# EAGLE library part OMAP3530-CBB (library ti-omap)
OMAP3530-CBB edit this description Auto generated by make-symbol-device-package-bsdl.ulp Rev. 32 Source: OMAP3530-CBB.bsd Connect-List generated from OMAP3530-CBB-REF.DEV Variant '' with split-device-symbol.ulp
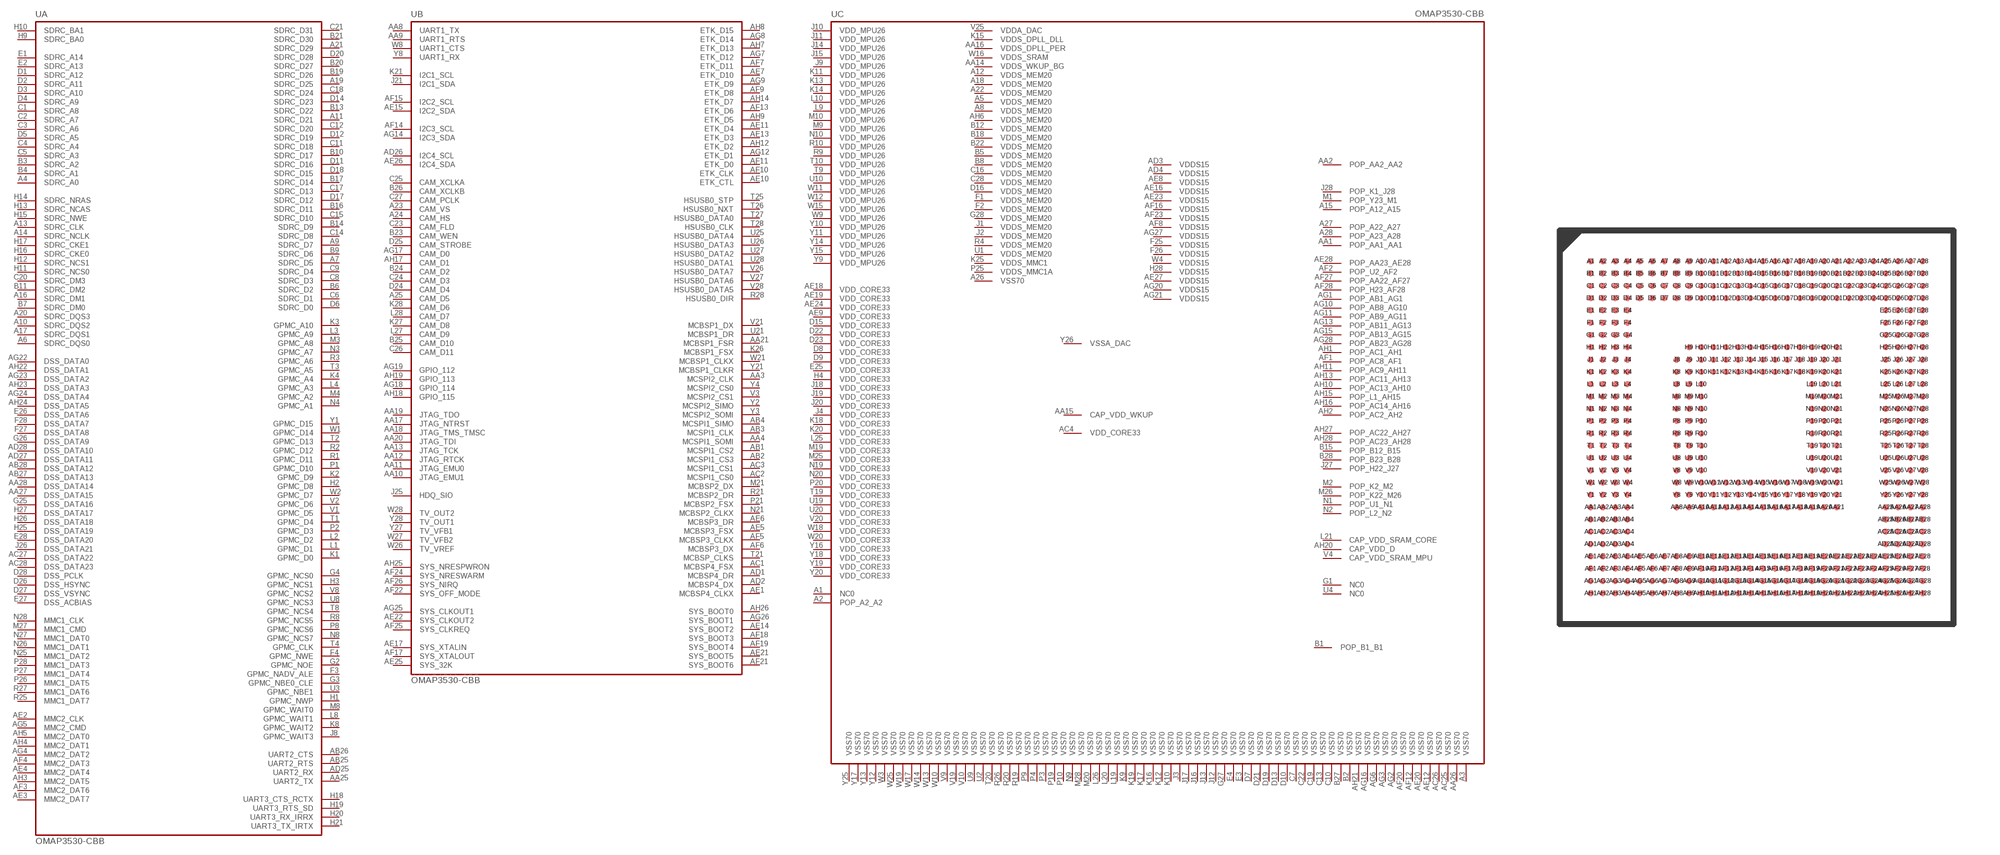
[diagram p0: symbol with the pads of CBB; footprint CBB]

Designator prefix U; gates A=OMAP3530-CBB-A B=OMAP3530-CBB-B C=OMAP3530-CBB-C

## OMAP3530-CBBX  [CBB]
A1  C:NC0  pas
A2  C:POP_A2_A2  pas
A3  C:VSS70  pas
A4  A:SDRC_A0  out
A5  C:VDDS_MEM20  pas
A6  A:SDRC_DQS0  pas
A7  A:SDRC_D5
A8  C:VDDS_MEM20  pas
A9  A:SDRC_D7
A10  A:SDRC_DQS2  pas
A11  A:SDRC_D21
A12  C:VDDS_MEM20  pas
A13  A:SDRC_CLK  pas
A14  A:SDRC_NCLK  pas
A15  C:POP_A12_A15  pas
A16  A:SDRC_DM1  out
A17  A:SDRC_DQS1  pas
A18  C:VDDS_MEM20  pas
A19  A:SDRC_D25
A20  A:SDRC_DQS3  pas
A21  A:SDRC_D29
A22  C:VDDS_MEM20  pas
A23  B:CAM_VS
A24  B:CAM_HS
A25  B:CAM_D5
A26  C:VSS70  pas
A27  C:POP_A22_A27  pas
A28  C:POP_A23_A28  pas
AA1  C:POP_AA1_AA1  pas
AA2  C:POP_AA2_AA2  pas
AA3  B:MCSPI2_CLK
AA4  B:MCSPI1_SOMI
AA8  B:UART1_TX
AA9  B:UART1_RTS
AA10  B:JTAG_EMU1  pas
AA11  B:JTAG_EMU0  pas
AA12  B:JTAG_RTCK  pas
AA13  B:JTAG_TCK  in
AA14  C:VDDS_WKUP_BG  pas
AA15  C:CAP_VDD_WKUP  pas
AA16  C:VDDS_DPLL_PER  pas
AA17  B:JTAG_NTRST  in
AA18  B:JTAG_TMS_TMSC  in
AA19  B:JTAG_TDO  out
AA20  B:JTAG_TDI  in
AA21  B:MCBSP1_FSR
AA25  A:UART2_TX
AA26  C:VSS70  pas
AA27  A:DSS_DATA15
AA28  A:DSS_DATA14
AB1  B:MCSPI1_CS2
AB2  B:MCSPI1_CS3
AB3  B:MCSPI1_CLK
AB4  B:MCSPI1_SIMO
AB25  A:UART2_RTS
AB26  A:UART2_CTS
AB27  A:DSS_DATA13
AB28  A:DSS_DATA12
AC1  B:MCBSP4_FSX
AC2  B:MCSPI1_CS0
AC3  B:MCSPI1_CS1
AC4  C:VDD_CORE33  pas
AC25  C:VSS70  pas
AC26  C:VSS70  pas
AC27  A:DSS_DATA22
AC28  A:DSS_DATA23
AD1  B:MCBSP4_DR
AD2  B:MCBSP4_DX
AD3  C:VDDS15  pas
AD4  C:VDDS15  pas
AD25  A:UART2_RX
AD26  B:I2C4_SCL
AD27  A:DSS_DATA11
AD28  A:DSS_DATA10
AE1  B:MCBSP4_CLKX
AE2  A:MMC2_CLK
AE3  A:MMC2_DAT7
AE4  A:MMC2_DAT4
AE5  B:MCBSP3_FSX
AE6  B:MCBSP3_DR
AE7  B:ETK_D10
AE8  C:VDDS15  pas
AE9  C:VDD_CORE33  pas
AE10  B:ETK_CTL
AE11  B:ETK_D4
AE12  C:VSS70  pas
AE13  B:ETK_D3
AE14  B:SYS_BOOT2
AE15  B:I2C2_SDA
AE16  C:VDDS15  pas
AE17  B:SYS_XTALIN  pas
AE18  C:VDD_CORE33  pas
AE19  C:VDD_CORE33  pas
AE20  C:VSS70  pas
AE21  B:SYS_BOOT5
AE22  B:SYS_CLKOUT2
AE23  C:VDDS15  pas
AE24  C:VDD_CORE33  pas
AE25  B:SYS_32K  pas
AE26  B:I2C4_SDA
AE27  C:VDDS15  pas
AE28  C:POP_AA23_AE28  pas
AF1  C:POP_AC8_AF1  pas
AF2  C:POP_U2_AF2  pas
AF3  A:MMC2_DAT6
AF4  A:MMC2_DAT3
AF5  B:MCBSP3_CLKX
AF6  B:MCBSP3_DX
AF7  B:ETK_D11
AF8  C:VDDS15  pas
AF9  B:ETK_D8
AF10  B:ETK_CLK
AF11  B:ETK_D0
AF12  C:VSS70  pas
AF13  B:ETK_D6
AF14  B:I2C3_SCL
AF15  B:I2C2_SCL
AF16  C:VDDS15  pas
AF17  B:SYS_XTALOUT  pas
AF18  B:SYS_BOOT3
AF19  B:SYS_BOOT4
AF20  C:VSS70  pas
AF21  B:SYS_BOOT6
AF22  B:SYS_OFF_MODE
AF23  C:VDDS15  pas
AF24  B:SYS_NRESWARM  pas
AF25  B:SYS_CLKREQ
AF26  B:SYS_NIRQ
AF27  C:POP_AA22_AF27  pas
AF28  C:POP_H23_AF28  pas
AG1  C:POP_AB1_AG1  pas
AG2  C:VSS70  pas
AG3  C:VSS70  pas
AG4  A:MMC2_DAT2
AG5  A:MMC2_CMD
AG6  C:VSS70  pas
AG7  B:ETK_D12
AG8  B:ETK_D14
AG9  B:ETK_D9
AG10  C:POP_AB8_AG10  pas
AG11  C:POP_AB9_AG11  pas
AG12  B:ETK_D1
AG13  C:POP_AB11_AG13  pas
AG14  B:I2C3_SDA
AG15  C:POP_AB13_AG15  pas
AG16  C:VSS70  pas
AG17  B:CAM_D0  in
AG18  B:GPIO_114  in
AG19  B:GPIO_112  in
AG20  C:VDDS15  pas
AG21  C:VDDS15  pas
AG22  A:DSS_DATA0
AG23  A:DSS_DATA2
AG24  A:DSS_DATA4
AG25  B:SYS_CLKOUT1
AG26  B:SYS_BOOT1
AG27  C:VDDS15  pas
AG28  C:POP_AB23_AG28  pas
AH1  C:POP_AC1_AH1  pas
AH2  C:POP_AC2_AH2  pas
AH3  A:MMC2_DAT5
AH4  A:MMC2_DAT1
AH5  A:MMC2_DAT0
AH6  C:VDDS_MEM20  pas
AH7  B:ETK_D13
AH8  B:ETK_D15
AH9  B:ETK_D5
AH10  C:POP_AC13_AH10  pas
AH11  C:POP_AC9_AH11  pas
AH12  B:ETK_D2
AH13  C:POP_AC11_AH13  pas
AH14  B:ETK_D7
AH15  C:POP_L1_AH15  pas
AH16  C:POP_AC14_AH16  pas
AH17  B:CAM_D1  in
AH18  B:GPIO_115  in
AH19  B:GPIO_113  in
AH20  C:CAP_VDD_D  pas
AH21  C:VSS70  pas
AH22  A:DSS_DATA1
AH23  A:DSS_DATA3
AH24  A:DSS_DATA5
AH25  B:SYS_NRESPWRON  pas
AH26  B:SYS_BOOT0
AH27  C:POP_AC22_AH27  pas
AH28  C:POP_AC23_AH28  pas
B1  C:POP_B1_B1  pas
B2  C:VSS70  pas
B3  A:SDRC_A2  out
B4  A:SDRC_A1  out
B5  C:VDDS_MEM20  pas
B6  A:SDRC_D2
B7  A:SDRC_DM0  out
B8  C:VDDS_MEM20  pas
B9  A:SDRC_D6
B10  A:SDRC_D17
B11  A:SDRC_DM2  out
B12  C:VDDS_MEM20  pas
B13  A:SDRC_D22
B14  A:SDRC_D9
B15  C:POP_B12_B15  pas
B16  A:SDRC_D11
B17  A:SDRC_D14
B18  C:VDDS_MEM20  pas
B19  A:SDRC_D26
B20  A:SDRC_D27
B21  A:SDRC_D30
B22  C:VDDS_MEM20  pas
B23  B:CAM_WEN
B24  B:CAM_D2
B25  B:CAM_D10
B26  B:CAM_XCLKB
B27  C:VSS70  pas
B28  C:POP_B23_B28  pas
C1  A:SDRC_A8  out
C2  A:SDRC_A7  out
C3  A:SDRC_A6  out
C4  A:SDRC_A4  out
C5  A:SDRC_A3  out
C6  A:SDRC_D1
C7  C:VSS70  pas
C8  A:SDRC_D3
C9  A:SDRC_D4
C10  C:VSS70  pas
C11  A:SDRC_D18
C12  A:SDRC_D20
C13  C:VSS70  pas
C14  A:SDRC_D8
C15  A:SDRC_D10
C16  C:VDDS_MEM20  pas
C17  A:SDRC_D13
C18  A:SDRC_D24
C19  C:VSS70  pas
C20  A:SDRC_DM3  out
C21  A:SDRC_D31
C22  C:VSS70  pas
C23  B:CAM_FLD
C24  B:CAM_D3
C25  B:CAM_XCLKA
C26  B:CAM_D11
C27  B:CAM_PCLK
C28  C:VDDS_MEM20  pas
D1  A:SDRC_A12  out
D2  A:SDRC_A11  out
D3  A:SDRC_A10  out
D4  A:SDRC_A9  out
D5  A:SDRC_A5  out
D6  A:SDRC_D0
D7  C:VSS70  pas
D8  C:VDD_CORE33  pas
D9  C:VDD_CORE33  pas
D10  C:VSS70  pas
D11  A:SDRC_D16
D12  A:SDRC_D19
D13  C:VSS70  pas
D14  A:SDRC_D23
D15  C:VDD_CORE33  pas
D16  C:VDDS_MEM20  pas
D17  A:SDRC_D12
D18  A:SDRC_D15
D19  C:VSS70  pas
D20  A:SDRC_D28
D21  C:VSS70  pas
D22  C:VDD_CORE33  pas
D23  C:VDD_CORE33  pas
D24  B:CAM_D4
D25  B:CAM_STROBE
D26  A:DSS_HSYNC
D27  A:DSS_VSYNC
D28  A:DSS_PCLK
E1  A:SDRC_A14  out
E2  A:SDRC_A13  out
E3  C:VSS70  pas
E4  C:VSS70  pas
E25  C:VDD_CORE33  pas
E26  A:DSS_DATA6
E27  A:DSS_ACBIAS
E28  A:DSS_DATA20
F1  C:VDDS_MEM20  pas
F2  C:VDDS_MEM20  pas
F3  A:GPMC_NADV_ALE  out
F4  A:GPMC_NWE  out
F25  C:VDDS15  pas
F26  C:VDDS15  pas
F27  A:DSS_DATA8
F28  A:DSS_DATA7
G1  C:NC0  pas
G2  A:GPMC_NOE  out
G3  A:GPMC_NBE0_CLE
G4  A:GPMC_NCS0  out
G25  A:DSS_DATA16
G26  A:DSS_DATA9
G27  C:VSS70  pas
G28  C:VDDS_MEM20  pas
H1  A:GPMC_NWP
H2  A:GPMC_D8
H3  A:GPMC_NCS1
H4  C:VDD_CORE33  pas
H9  A:SDRC_BA0  out
H10  A:SDRC_BA1  out
H11  A:SDRC_NCS0  out
H12  A:SDRC_NCS1  out
H13  A:SDRC_NCAS  out
H14  A:SDRC_NRAS  out
H15  A:SDRC_NWE  out
H16  A:SDRC_CKE0  out
H17  A:SDRC_CKE1  out
H18  A:UART3_CTS_RCTX
H19  A:UART3_RTS_SD
H20  A:UART3_RX_IRRX
H21  A:UART3_TX_IRTX
H25  A:DSS_DATA19
H26  A:DSS_DATA18
H27  A:DSS_DATA17
H28  C:VDDS15  pas
J1  C:VDDS_MEM20  pas
J2  C:VDDS_MEM20  pas
J3  C:VSS70  pas
J4  C:VDD_CORE33  pas
J8  A:GPMC_WAIT3
J9  C:VDD_MPU26  pas
J10  C:VDD_MPU26  pas
J11  C:VDD_MPU26  pas
J12  C:VSS70  pas
J13  C:VSS70  pas
J14  C:VDD_MPU26  pas
J15  C:VDD_MPU26  pas
J16  C:VSS70  pas
J17  C:VSS70  pas
J18  C:VDD_CORE33  pas
J19  C:VDD_CORE33  pas
J20  C:VDD_CORE33  pas
J21  B:I2C1_SDA
J25  B:HDQ_SIO
J26  A:DSS_DATA21
J27  C:POP_H22_J27  pas
J28  C:POP_K1_J28  pas
K1  A:GPMC_D0
K2  A:GPMC_D9
K3  A:GPMC_A10
K4  A:GPMC_A4
K8  A:GPMC_WAIT2
K9  C:VSS70  pas
K10  C:VSS70  pas
K11  C:VDD_MPU26  pas
K12  C:VSS70  pas
K13  C:VDD_MPU26  pas
K14  C:VDD_MPU26  pas
K15  C:VDDS_DPLL_DLL  pas
K16  C:VSS70  pas
K17  C:VSS70  pas
K18  C:VDD_CORE33  pas
K19  C:VSS70  pas
K20  C:VDD_CORE33  pas
K21  B:I2C1_SCL
K25  C:VDDS_MMC1  pas
K26  B:MCBSP1_FSX
K27  B:CAM_D8
K28  B:CAM_D6
L1  A:GPMC_D1
L2  A:GPMC_D2
L3  A:GPMC_A9
L4  A:GPMC_A3
L8  A:GPMC_WAIT1
L9  C:VDD_MPU26  pas
L10  C:VDD_MPU26  pas
L19  C:VSS70  pas
L20  C:VSS70  pas
L21  C:CAP_VDD_SRAM_CORE  pas
L25  C:VDD_CORE33  pas
L26  C:VSS70  pas
L27  B:CAM_D9
L28  B:CAM_D7
M1  C:POP_Y23_M1  pas
M2  C:POP_K2_M2  pas
M3  A:GPMC_A8
M4  A:GPMC_A2
M8  A:GPMC_WAIT0  in
M9  C:VDD_MPU26  pas
M10  C:VDD_MPU26  pas
M19  C:VDD_CORE33  pas
M20  C:VSS70  pas
M21  B:MCBSP2_DX
M25  C:VDD_CORE33  pas
M26  C:POP_K22_M26  pas
M27  A:MMC1_CMD
M28  C:VSS70  pas
N1  C:POP_U1_N1  pas
N2  C:POP_L2_N2  pas
N3  A:GPMC_A7
N4  A:GPMC_A1
N8  A:GPMC_NCS7
N9  C:VSS70  pas
N10  C:VDD_MPU26  pas
N19  C:VDD_CORE33  pas
N20  C:VDD_CORE33  pas
N21  B:MCBSP2_CLKX
N25  A:MMC1_DAT2
N26  A:MMC1_DAT1
N27  A:MMC1_DAT0
N28  A:MMC1_CLK
P1  A:GPMC_D10
P2  A:GPMC_D3
P3  C:VSS70  pas
P4  C:VSS70  pas
P8  A:GPMC_NCS6
P9  C:VSS70  pas
P10  C:VSS70  pas
P19  C:VSS70  pas
P20  C:VDD_CORE33  pas
P21  B:MCBSP2_FSX
P25  C:VDDS_MMC1A  pas
P26  A:MMC1_DAT5
P27  A:MMC1_DAT4
P28  A:MMC1_DAT3
R1  A:GPMC_D11
R2  A:GPMC_D12
R3  A:GPMC_A6
R4  C:VDDS_MEM20  pas
R8  A:GPMC_NCS5
R9  C:VDD_MPU26  pas
R10  C:VDD_MPU26  pas
R19  C:VSS70  pas
R20  C:VSS70  pas
R21  B:MCBSP2_DR
R25  A:MMC1_DAT7
R26  C:VSS70  pas
R27  A:MMC1_DAT6
R28  B:HSUSB0_DIR
T1  A:GPMC_D4
T2  A:GPMC_D13
T3  A:GPMC_A5
T4  A:GPMC_CLK
T8  A:GPMC_NCS4
T9  C:VDD_MPU26  pas
T10  C:VDD_MPU26  pas
T19  C:VDD_CORE33  pas
T20  C:VSS70  pas
T21  B:MCBSP_CLKS
T25  B:HSUSB0_STP
T26  B:HSUSB0_NXT
T27  B:HSUSB0_DATA0
T28  B:HSUSB0_CLK
U1  C:VDDS_MEM20  pas
U2  C:VSS70  pas
U3  A:GPMC_NBE1
U4  C:NC0  pas
U8  A:GPMC_NCS3
U9  C:VSS70  pas
U10  C:VDD_MPU26  pas
U19  C:VDD_CORE33  pas
U20  C:VDD_CORE33  pas
U21  B:MCBSP1_DR
U25  B:HSUSB0_DATA4
U26  B:HSUSB0_DATA3
U27  B:HSUSB0_DATA2
U28  B:HSUSB0_DATA1
V1  A:GPMC_D5
V2  A:GPMC_D6
V3  B:MCSPI2_CS1
V4  C:CAP_VDD_SRAM_MPU  pas
V8  A:GPMC_NCS2
V9  C:VSS70  pas
V10  C:VSS70  pas
V19  C:VSS70  pas
V20  C:VDD_CORE33  pas
V21  B:MCBSP1_DX
V25  C:VDDA_DAC  pas
V26  B:HSUSB0_DATA7
V27  B:HSUSB0_DATA6
V28  B:HSUSB0_DATA5
W1  A:GPMC_D14
W2  A:GPMC_D7
W3  C:VSS70  pas
W4  C:VDDS15  pas
W8  B:UART1_CTS
W9  C:VDD_MPU26  pas
W10  C:VSS70  pas
W11  C:VDD_MPU26  pas
W12  C:VDD_MPU26  pas
W13  C:VSS70  pas
W14  C:VSS70  pas
W15  C:VDD_MPU26  pas
W16  C:VDDS_SRAM  pas
W17  C:VSS70  pas
W18  C:VDD_CORE33  pas
W19  C:VSS70  pas
W20  C:VDD_CORE33  pas
W21  B:MCBSP1_CLKX
W25  C:VSS70  pas
W26  B:TV_VREF  pas
W27  B:TV_VFB2  pas
W28  B:TV_OUT2  pas
Y1  A:GPMC_D15
Y2  B:MCSPI2_SIMO
Y3  B:MCSPI2_SOMI
Y4  B:MCSPI2_CS0
Y8  B:UART1_RX
Y9  C:VDD_MPU26  pas
Y10  C:VDD_MPU26  pas
Y11  C:VDD_MPU26  pas
Y12  C:VSS70  pas
Y13  C:VSS70  pas
Y14  C:VDD_MPU26  pas
Y15  C:VDD_MPU26  pas
Y16  C:VDD_CORE33  pas
Y17  C:VSS70  pas
Y18  C:VDD_CORE33  pas
Y19  C:VDD_CORE33  pas
Y20  C:VDD_CORE33  pas
Y21  B:MCBSP1_CLKR
Y25  C:VSS70  pas
Y26  C:VSSA_DAC  pas
Y27  B:TV_VFB1  pas
Y28  B:TV_OUT1  pas

## Footprint CBB (pad centres in mm)
PBGA-515 - CBB (S-PBGA-N515) body 12x12 mm, pitch 0.4 mm
smd 0.2 x 0.2: A1 -5.4,5.4; A2 -5,5.4; A3 -4.6,5.4; A4 -4.2,5.4; A5 -3.8,5.4; A6 -3.4,5.4; A7 -3,5.4; A8 -2.6,5.4; A9 -2.2,5.4; A10 -1.8,5.4; A11 -1.4,5.4; A12 -1,5.4; A13 -0.6,5.4; A14 -0.2,5.4; A15 0.2,5.4; A16 0.6,5.4; A17 1,5.4; A18 1.4,5.4; A19 1.8,5.4; A20 2.2,5.4; A21 2.6,5.4; A22 3,5.4; A23 3.4,5.4; A24 3.8,5.4; A25 4.2,5.4; A26 4.6,5.4; A27 5,5.4; A28 5.4,5.4; AA1 -5.4,-2.6; AA2 -5,-2.6; AA3 -4.6,-2.6; AA4 -4.2,-2.6; AA8 -2.6,-2.6; AA9 -2.2,-2.6; AA10 -1.8,-2.6; AA11 -1.4,-2.6; AA12 -1,-2.6; AA13 -0.6,-2.6; AA14 -0.2,-2.6; AA15 0.2,-2.6; AA16 0.6,-2.6; AA17 1,-2.6; AA18 1.4,-2.6; AA19 1.8,-2.6; AA20 2.2,-2.6; AA21 2.6,-2.6; AA25 4.2,-2.6; AA26 4.6,-2.6; AA27 5,-2.6; AA28 5.4,-2.6; AB1 -5.4,-3; AB2 -5,-3; AB3 -4.6,-3; AB4 -4.2,-3; AB25 4.2,-3; AB26 4.6,-3; AB27 5,-3; AB28 5.4,-3; AC1 -5.4,-3.4; AC2 -5,-3.4; AC3 -4.6,-3.4; AC4 -4.2,-3.4; AC25 4.2,-3.4; AC26 4.6,-3.4; AC27 5,-3.4; AC28 5.4,-3.4; AD1 -5.4,-3.8; AD2 -5,-3.8; AD3 -4.6,-3.8; AD4 -4.2,-3.8; AD25 4.2,-3.8; AD26 4.6,-3.8; AD27 5,-3.8; AD28 5.4,-3.8; AE1 -5.4,-4.2; AE2 -5,-4.2; AE3 -4.6,-4.2; AE4 -4.2,-4.2; AE5 -3.8,-4.2; AE6 -3.4,-4.2; AE7 -3,-4.2; AE8 -2.6,-4.2; AE9 -2.2,-4.2; AE10 -1.8,-4.2; AE11 -1.4,-4.2; AE12 -1,-4.2; AE13 -0.6,-4.2; AE14 -0.2,-4.2; AE15 0.2,-4.2; AE16 0.6,-4.2; AE17 1,-4.2; AE18 1.4,-4.2; AE19 1.8,-4.2; AE20 2.2,-4.2; AE21 2.6,-4.2; AE22 3,-4.2; AE23 3.4,-4.2; AE24 3.8,-4.2; AE25 4.2,-4.2; AE26 4.6,-4.2; AE27 5,-4.2; AE28 5.4,-4.2; AF1 -5.4,-4.6; AF2 -5,-4.6; AF3 -4.6,-4.6; AF4 -4.2,-4.6; AF5 -3.8,-4.6; AF6 -3.4,-4.6; AF7 -3,-4.6; AF8 -2.6,-4.6; AF9 -2.2,-4.6; AF10 -1.8,-4.6; AF11 -1.4,-4.6; AF12 -1,-4.6; AF13 -0.6,-4.6; AF14 -0.2,-4.6; AF15 0.2,-4.6; AF16 0.6,-4.6; AF17 1,-4.6; AF18 1.4,-4.6; AF19 1.8,-4.6; AF20 2.2,-4.6; AF21 2.6,-4.6; AF22 3,-4.6; AF23 3.4,-4.6; AF24 3.8,-4.6; AF25 4.2,-4.6; AF26 4.6,-4.6; AF27 5,-4.6; AF28 5.4,-4.6; AG1 -5.4,-5; AG2 -5,-5; AG3 -4.6,-5; AG4 -4.2,-5; AG5 -3.8,-5; AG6 -3.4,-5; AG7 -3,-5; AG8 -2.6,-5; AG9 -2.2,-5; AG10 -1.8,-5; AG11 -1.4,-5; AG12 -1,-5; AG13 -0.6,-5; AG14 -0.2,-5; AG15 0.2,-5; AG16 0.6,-5; AG17 1,-5; AG18 1.4,-5; AG19 1.8,-5; AG20 2.2,-5; AG21 2.6,-5; AG22 3,-5; AG23 3.4,-5; AG24 3.8,-5; AG25 4.2,-5; AG26 4.6,-5; AG27 5,-5; AG28 5.4,-5; AH1 -5.4,-5.4; AH2 -5,-5.4; AH3 -4.6,-5.4; AH4 -4.2,-5.4; AH5 -3.8,-5.4; AH6 -3.4,-5.4; AH7 -3,-5.4; AH8 -2.6,-5.4; AH9 -2.2,-5.4; AH10 -1.8,-5.4; AH11 -1.4,-5.4; AH12 -1,-5.4; AH13 -0.6,-5.4; AH14 -0.2,-5.4; AH15 0.2,-5.4; AH16 0.6,-5.4; AH17 1,-5.4; AH18 1.4,-5.4; AH19 1.8,-5.4; AH20 2.2,-5.4; AH21 2.6,-5.4; AH22 3,-5.4; AH23 3.4,-5.4; AH24 3.8,-5.4; AH25 4.2,-5.4; AH26 4.6,-5.4; AH27 5,-5.4; AH28 5.4,-5.4; B1 -5.4,5; B2 -5,5; B3 -4.6,5; B4 -4.2,5; B5 -3.8,5; B6 -3.4,5; B7 -3,5; B8 -2.6,5; B9 -2.2,5; B10 -1.8,5; B11 -1.4,5; B12 -1,5; B13 -0.6,5; B14 -0.2,5; B15 0.2,5; B16 0.6,5; B17 1,5; B18 1.4,5; B19 1.8,5; B20 2.2,5; B21 2.6,5; B22 3,5; B23 3.4,5; B24 3.8,5; B25 4.2,5; B26 4.6,5; B27 5,5; B28 5.4,5; C1 -5.4,4.6; C2 -5,4.6; C3 -4.6,4.6; C4 -4.2,4.6; C5 -3.8,4.6; C6 -3.4,4.6; C7 -3,4.6; C8 -2.6,4.6; C9 -2.2,4.6; C10 -1.8,4.6; C11 -1.4,4.6; C12 -1,4.6; C13 -0.6,4.6; C14 -0.2,4.6; C15 0.2,4.6; C16 0.6,4.6; C17 1,4.6; C18 1.4,4.6; C19 1.8,4.6; C20 2.2,4.6; C21 2.6,4.6; C22 3,4.6; C23 3.4,4.6; C24 3.8,4.6; C25 4.2,4.6; C26 4.6,4.6; C27 5,4.6; C28 5.4,4.6; D1 -5.4,4.2; D2 -5,4.2; D3 -4.6,4.2; D4 -4.2,4.2; D5 -3.8,4.2; D6 -3.4,4.2; D7 -3,4.2; D8 -2.6,4.2; D9 -2.2,4.2; D10 -1.8,4.2; D11 -1.4,4.2; D12 -1,4.2; D13 -0.6,4.2; D14 -0.2,4.2; D15 0.2,4.2; D16 0.6,4.2; D17 1,4.2; D18 1.4,4.2; D19 1.8,4.2; D20 2.2,4.2; D21 2.6,4.2; D22 3,4.2; D23 3.4,4.2; D24 3.8,4.2; D25 4.2,4.2; D26 4.6,4.2; D27 5,4.2; D28 5.4,4.2; E1 -5.4,3.8; E2 -5,3.8; E3 -4.6,3.8; E4 -4.2,3.8; E25 4.2,3.8; E26 4.6,3.8; E27 5,3.8; E28 5.4,3.8; F1 -5.4,3.4; F2 -5,3.4; F3 -4.6,3.4; F4 -4.2,3.4; F25 4.2,3.4; F26 4.6,3.4; F27 5,3.4; F28 5.4,3.4; G1 -5.4,3; G2 -5,3; G3 -4.6,3; G4 -4.2,3; G25 4.2,3; G26 4.6,3; G27 5,3; G28 5.4,3; H1 -5.4,2.6; H2 -5,2.6; H3 -4.6,2.6; H4 -4.2,2.6; H9 -2.2,2.6; H10 -1.8,2.6; H11 -1.4,2.6; H12 -1,2.6; H13 -0.6,2.6; H14 -0.2,2.6; H15 0.2,2.6; H16 0.6,2.6; H17 1,2.6; H18 1.4,2.6; H19 1.8,2.6; H20 2.2,2.6; H21 2.6,2.6; H25 4.2,2.6; H26 4.6,2.6; H27 5,2.6; H28 5.4,2.6; J1 -5.4,2.2; J2 -5,2.2; J3 -4.6,2.2; J4 -4.2,2.2; J8 -2.6,2.2; J9 -2.2,2.2; J10 -1.8,2.2; J11 -1.4,2.2; J12 -1,2.2; J13 -0.6,2.2; J14 -0.2,2.2; J15 0.2,2.2; J16 0.6,2.2; J17 1,2.2; J18 1.4,2.2; J19 1.8,2.2; J20 2.2,2.2; J21 2.6,2.2; J25 4.2,2.2; J26 4.6,2.2; J27 5,2.2; J28 5.4,2.2; K1 -5.4,1.8; K2 -5,1.8; K3 -4.6,1.8; K4 -4.2,1.8; K8 -2.6,1.8; K9 -2.2,1.8; K10 -1.8,1.8; K11 -1.4,1.8; K12 -1,1.8; K13 -0.6,1.8; K14 -0.2,1.8; K15 0.2,1.8; K16 0.6,1.8; K17 1,1.8; K18 1.4,1.8; K19 1.8,1.8; K20 2.2,1.8; K21 2.6,1.8; K25 4.2,1.8; K26 4.6,1.8; K27 5,1.8; K28 5.4,1.8; L1 -5.4,1.4; L2 -5,1.4; L3 -4.6,1.4; L4 -4.2,1.4; L8 -2.6,1.4; L9 -2.2,1.4; L10 -1.8,1.4; L19 1.8,1.4; L20 2.2,1.4; L21 2.6,1.4; L25 4.2,1.4; L26 4.6,1.4; L27 5,1.4; L28 5.4,1.4; M1 -5.4,1; M2 -5,1; M3 -4.6,1; M4 -4.2,1; M8 -2.6,1; M9 -2.2,1; M10 -1.8,1; M19 1.8,1; M20 2.2,1; M21 2.6,1; M25 4.2,1; M26 4.6,1; M27 5,1; M28 5.4,1; N1 -5.4,0.6; N2 -5,0.6; N3 -4.6,0.6; N4 -4.2,0.6; N8 -2.6,0.6; N9 -2.2,0.6; N10 -1.8,0.6; N19 1.8,0.6; N20 2.2,0.6; N21 2.6,0.6; N25 4.2,0.6; N26 4.6,0.6; N27 5,0.6; N28 5.4,0.6; P1 -5.4,0.2; P2 -5,0.2; P3 -4.6,0.2; P4 -4.2,0.2; P8 -2.6,0.2; P9 -2.2,0.2; P10 -1.8,0.2; P19 1.8,0.2; P20 2.2,0.2; P21 2.6,0.2; P25 4.2,0.2; P26 4.6,0.2; P27 5,0.2; P28 5.4,0.2; R1 -5.4,-0.2; R2 -5,-0.2; R3 -4.6,-0.2; R4 -4.2,-0.2; R8 -2.6,-0.2; R9 -2.2,-0.2; R10 -1.8,-0.2; R19 1.8,-0.2; R20 2.2,-0.2; R21 2.6,-0.2; R25 4.2,-0.2; R26 4.6,-0.2; R27 5,-0.2; R28 5.4,-0.2; T1 -5.4,-0.6; T2 -5,-0.6; T3 -4.6,-0.6; T4 -4.2,-0.6; T8 -2.6,-0.6; T9 -2.2,-0.6; T10 -1.8,-0.6; T19 1.8,-0.6; T20 2.2,-0.6; T21 2.6,-0.6; T25 4.2,-0.6; T26 4.6,-0.6; T27 5,-0.6; T28 5.4,-0.6; U1 -5.4,-1; U2 -5,-1; U3 -4.6,-1; U4 -4.2,-1; U8 -2.6,-1; U9 -2.2,-1; U10 -1.8,-1; U19 1.8,-1; U20 2.2,-1; U21 2.6,-1; U25 4.2,-1; U26 4.6,-1; U27 5,-1; U28 5.4,-1; V1 -5.4,-1.4; V2 -5,-1.4; V3 -4.6,-1.4; V4 -4.2,-1.4; V8 -2.6,-1.4; V9 -2.2,-1.4; V10 -1.8,-1.4; V19 1.8,-1.4; V20 2.2,-1.4; V21 2.6,-1.4; V25 4.2,-1.4; V26 4.6,-1.4; V27 5,-1.4; V28 5.4,-1.4; W1 -5.4,-1.8; W2 -5,-1.8; W3 -4.6,-1.8; W4 -4.2,-1.8; W8 -2.6,-1.8; W9 -2.2,-1.8; W10 -1.8,-1.8; W11 -1.4,-1.8; W12 -1,-1.8; W13 -0.6,-1.8; W14 -0.2,-1.8; W15 0.2,-1.8; W16 0.6,-1.8; W17 1,-1.8; W18 1.4,-1.8; W19 1.8,-1.8; W20 2.2,-1.8; W21 2.6,-1.8; W25 4.2,-1.8; W26 4.6,-1.8; W27 5,-1.8; W28 5.4,-1.8; Y1 -5.4,-2.2; Y2 -5,-2.2; Y3 -4.6,-2.2; Y4 -4.2,-2.2; Y8 -2.6,-2.2; Y9 -2.2,-2.2; Y10 -1.8,-2.2; Y11 -1.4,-2.2; Y12 -1,-2.2; Y13 -0.6,-2.2; Y14 -0.2,-2.2; Y15 0.2,-2.2; Y16 0.6,-2.2; Y17 1,-2.2; Y18 1.4,-2.2; Y19 1.8,-2.2; Y20 2.2,-2.2; Y21 2.6,-2.2; Y25 4.2,-2.2; Y26 4.6,-2.2; Y27 5,-2.2; Y28 5.4,-2.2